# Altium footprint library BW1098FFC.PcbLib: 2 footprints
Each footprint in its own frame and in the unit in brackets; x right, y up, seen from the top. Pads: shape width x height; smd on the part's side, far side on the other; paste and mask are expansions set on the pad; w line width, h text height; cw(c..) or ccw(c..) is an arc to the next point about the centre after c.
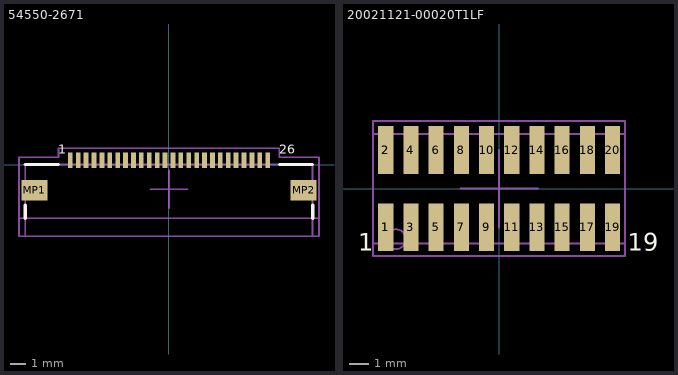
[diagram p0: the footprints below, top view; thin cyan lines are the x and y axes]

## 54550-2671 [mm] "26pin Molex FFC 0.5mm TOP"
height 1.2
pads (28):
  rect 0.3x1 smd: 1(-6.241,0.272) 2(-5.741,0.272) 3(-5.241,0.272) 4(-4.741,0.272) 5(-4.241,0.272) 6(-3.741,0.272) 7(-3.241,0.272) 8(-2.741,0.272) 9(-2.241,0.272) 10(-1.741,0.272) 11(-1.241,0.272) 12(-0.741,0.272) 13(-0.241,0.272) 14(0.259,0.272) 15(0.759,0.272) 16(1.259,0.272) 17(1.759,0.272) 18(2.259,0.272) 19(2.759,0.272) 20(3.259,0.272) 21(3.759,0.272) 22(4.259,0.272) 23(4.759,0.272) 24(5.259,0.272) 25(5.759,0.272) 26(6.259,0.272)
  rect 1.65x1.3 smd: MP1(-8.516,-1.628) MP2(8.534,-1.628)
Top Overlay:
  lines w0.2: -9.091,-3.428 -9.091,-2.568 ; -9.091,0 -6.991,0 ; 6.998,0 9.098,0 ; 9.109,-3.428 9.109,-2.568
  text "1" at -6.991,0.45 h1
  text "26" at 6.998,0.45 h1
Top Assembly:
  lines w0.1: -9.491,-4.55 -9.491,0.45 -6.991,0.45 -6.991,1.022 6.998,1.022 6.998,0.45 9.509,0.45 9.509,-4.55 -9.491,-4.55
  text "'.Designator'" at -3.091,-2.278 h1.52
Top Courtyard:
  lines w0.1: -9.491,-3.4 9.509,-3.4 ; -1.191,-1.578 0.009,-1.578 ; 0.009,-2.778 0.009,-1.578 ; 0.009,-0.378 0.009,-1.578 ; 1.209,-1.578 0.009,-1.578 ; -9.491,-4.55 -9.1,-4.55 9.509,-4.55 9.509,0.45 6.998,0.45 6.998,1.022 -6.991,1.022 -6.991,0.45 -9.491,0.45 -9.491,-4.34 -9.491,-4.55
Top Component Outline:
  lines w0.1: -9.1,-4.55 9.1,-4.55 9.098,-4.55 9.098,0 -9.092,0 -9.1,0 -9.1,-4.55
3D body "545502671.stp": height 1.2, standoff 0, extent -9.1,-4.55 9.1,0.45

## 20021121-00020T1LF [mm] "20pin SMT Minitek127 1.27mm pitch"
pads (22):
  rect 0.76x2.4 smd: 1(-5.715,-1.95) 1(-5.715,-1.95) 2(-5.715,1.95) 2(-5.715,1.95) 3(-4.445,-1.95) 4(-4.445,1.95) 5(-3.175,-1.95) 6(-3.175,1.95) 7(-1.905,-1.95) 8(-1.905,1.95) 9(-0.635,-1.95) 10(-0.635,1.95) 11(0.635,-1.95) 12(0.635,1.95) 13(1.905,-1.95) 14(1.905,1.95) 15(3.175,-1.95) 16(3.175,1.95) 17(4.445,-1.95) 18(4.445,1.95) 19(5.715,-1.95) 20(5.715,1.95)
Top Overlay:
  text "1" at -7.112,-3.429 h1.52
  text "19" at 6.477,-3.429 h1.52
Top Assembly:
  lines w0.1: -6.35,-3.4 6.35,-3.4 6.35,3.4 -6.35,3.4 -6.35,-3.4 ; -4.699,-2.54 ccw(c-5.199,-2.54) -4.699,-2.54
  text "'.Designator'" at -4.445,0 h1.52
Top Courtyard:
  lines w0.1: -1.95,0 0.009,0 ; -0.009,0 1.95,0 ; 0,-1.95 0,0.009 ; 0,0 0,1.95 ; -6.35,-3.4 -6.35,3.4 6.35,3.4 6.35,-3.4 -6.35,-3.4
Top Component Outline:
  lines w0.1: -6.35,-2.75 -6.35,2.75 6.35,2.75 6.35,-2.75 -6.345,-2.75 -6.35,-2.75
3D body "20021121-00020T1LF.stp": height 4.55, standoff 0, extent -6.35,-2.75 6.35,2.75